# EAGLE library part MCP1253 (library PEGMA)
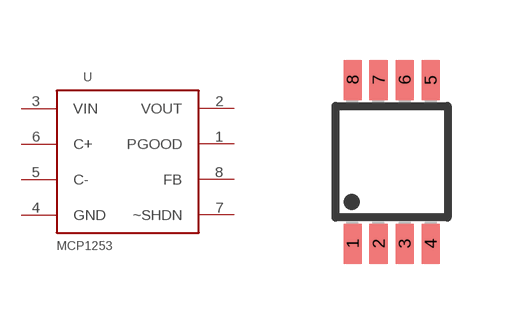
[diagram p0: symbol with the pads of MSOP8; footprint MSOP8]

Designator prefix -

## MCP1253  [MSOP8]
1  PGOOD
2  VOUT
3  VIN
4  GND
5  C-
6  C+
7  ~SHDN
8  FB

## Footprint MSOP8 (pad centres in mm)
Micro Small Outline Package Grid 0.65mm Source: http://ww1.microchip.com/downloads/en/DeviceDoc/21796H.pdf
smd 0.45 x 1: 1 -0.975,-2.05; 2 -0.325,-2.05; 3 0.325,-2.05; 4 0.975,-2.05; 5 0.975,2.05; 6 0.325,2.05; 7 -0.325,2.05; 8 -0.975,2.05